# Altium integrated library Cypress Clocks & Buffers Clock Distribution.IntLib: 321 symbols (part 24 of 25)
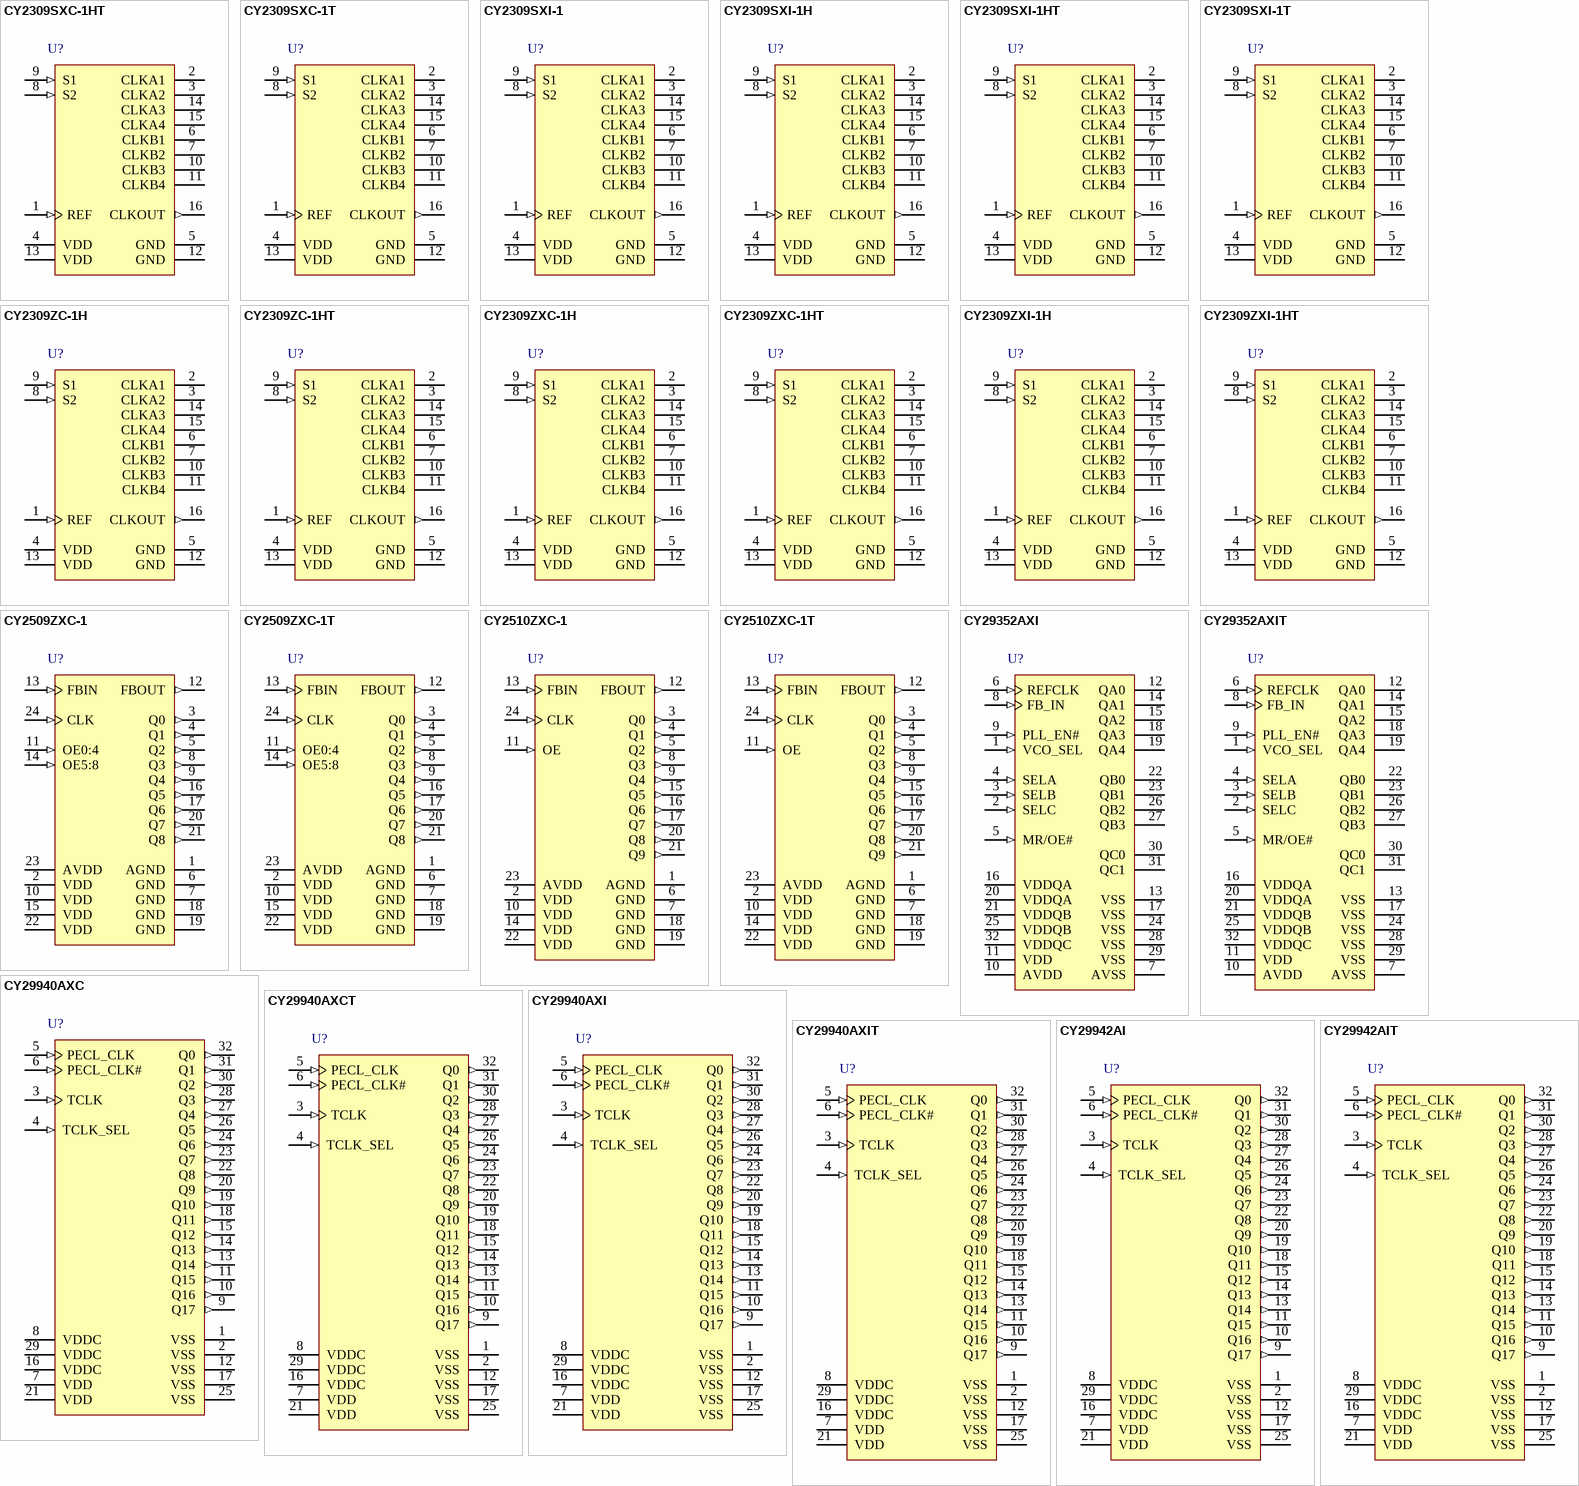
[diagram p39: symbols CY2309SXC-1HT to CY29942AIT]

## CY29940AXIT
designator U?
1:18 Clock Distribution Buffer, 2.5 / 3.3 V, 18 Outputs, 200 MHz Maximum, -40 to 85 degC, 32-Pin PLCC (AX32), Tape and Reel; Manufacturer: Cypress; PartNumber: CY29940AXIT; Input Frequency Max. (MHz): 200; Max. Operating Voltage (V): 3.465; Min. Operating Voltage (V): 2.375; No. of Outputs: 18; DatasheetVersion: Rev. *F; PackageVersion: Rev. *E, 08/2012; PackageReference: AX32; PackageDescription: 32-Pin Thin Plastic Quad Flatpack, Body 7 x 7 mm, Pitch 0.8 mm; Supplier 1: Digi-Key; Supplier Part Number 1: CY29940AXIT-ND; Supplier 2: Mouser; Supplier Part Number 2: 727-CY29940AXIT; Max. Operating Temp. (degreesC): 85; Min. Operating Temp. (degreesC): -40; Output Frequency Max. (MHz): 200; Packing: Tape and Reel; RoHS: Pb-Free; Mounting Technology: Surface Mount; ComponentLink1Description: Manufacturer URL; ComponentLink1URL: http://www.cypress.com/; ComponentLink2Description: Datasheet; ComponentLink2URL: http://www.cypress.com/?docID=34951; ComponentLink3Description: Package Specification; ComponentLink3URL: http://www.cypress.com/?docID=39237
footprint CYP-AX32_N (QFP, 32-Leads, Body 7x7mm, Pitch 0.8mm, IPC Medium Density)
footprint CYP-AX32_L (QFP, 32-Leads, Body 7x7mm, Pitch 0.8mm, IPC High Density)
footprint CYP-AX32_M (QFP, 32-Leads, Body 7x7mm, Pitch 0.8mm, IPC Low Density)
pins: 1 VSS (power) "Common ground", 2 VSS (power) "Common ground", 3 TCLK (in) "External reference/test clock input", 4 TCLK_SEL (in) "Clock Select Input. When LOW, PECL clock is selected and when HIGH TCLK is selected.", 5 PECL_CLK (in) "PECL input clock", 6 PECL_CLK# (in) "PECL input clock", 7 VDD (power) "3.3 V or 2.5 V power supply", 8 VDDC (power) "3.3 V or 2.5 V power supply for output clock buffers", 9 Q17 (out) "Clock outputs", 10 Q16 (out) "Clock outputs", 11 Q15 (out) "Clock outputs", 12 VSS (power) "Common ground", 13 Q14 (out) "Clock outputs", 14 Q13 (out) "Clock outputs", 15 Q12 (out) "Clock outputs", 16 VDDC (power) "3.3 V or 2.5 V power supply for output clock buffers", 17 VSS (power) "Common ground", 18 Q11 (out) "Clock outputs", 19 Q10 (out) "Clock outputs", 20 Q9 (out) "Clock outputs", 21 VDD (power) "3.3 V or 2.5 V power supply", 22 Q8 (out) "Clock outputs", 23 Q7 (out) "Clock outputs", 24 Q6 (out) "Clock outputs", 25 VSS (power) "Common ground", 26 Q5 (out) "Clock outputs", 27 Q4 (out) "Clock outputs", 28 Q3 (out) "Clock outputs", 29 VDDC (power) "3.3 V or 2.5 V power supply for output clock buffers", 30 Q2 (out) "Clock outputs", 31 Q1 (out) "Clock outputs", 32 Q0 (out) "Clock outputs"

## CY29942AI
designator U?
1:18 Clock Distribution Buffer, 2.5 / 3.3 V, 18 Outputs, 200 MHz Maximum, -40 to 85 degC, 32-Pin TQFP (AX32), Tube; Manufacturer: Cypress; PartNumber: CY29942AI; Input Frequency Max. (MHz): 200; Max. Operating Voltage (V): 3.465; Min. Operating Voltage (V): 2.375; No. of Outputs: 18; DatasheetVersion: Rev. *H; PackageVersion: Rev. *E, 08/2012; PackageReference: AX32; PackageDescription: 32-Pin Thin Plastic Quad Flatpack, Body 7 x 7 mm, Pitch 0.8 mm; Supplier 1: Digi-Key; Supplier Part Number 1: CY29942AI-ND; Supplier 2: Mouser; Supplier Part Number 2: 727-CY29942AI; Max. Operating Temp. (degreesC): 85; Min. Operating Temp. (degreesC): -40; Output Frequency Max. (MHz): 200; Packing: Tube; Mounting Technology: Surface Mount; ComponentLink1Description: Manufacturer URL; ComponentLink1URL: http://www.cypress.com/; ComponentLink2Description: Datasheet; ComponentLink2URL: http://www.cypress.com/?docID=46260; ComponentLink3Description: Package Specification; ComponentLink3URL: http://www.cypress.com/?docID=39237
footprint CYP-AX32_N (QFP, 32-Leads, Body 7x7mm, Pitch 0.8mm, IPC Medium Density)
footprint CYP-AX32_L (QFP, 32-Leads, Body 7x7mm, Pitch 0.8mm, IPC High Density)
footprint CYP-AX32_M (QFP, 32-Leads, Body 7x7mm, Pitch 0.8mm, IPC Low Density)
pins: 1 VSS (power) "Common ground", 2 VSS (power) "Common ground", 3 TCLK (in) "External reference/test clock input", 4 TCLK_SEL (in) "Clock Select Input. When LOW, PECL clock is selected and when HIGH TCLK is selected.", 5 PECL_CLK (in) "PECL input clock", 6 PECL_CLK# (in) "PECL input clock", 7 VDD (power) "3.3 V or 2.5 V power supply", 8 VDDC (power) "3.3 V or 2.5 V power supply for output clock buffers", 9 Q17 (out) "Clock outputs", 10 Q16 (out) "Clock outputs", 11 Q15 (out) "Clock outputs", 12 VSS (power) "Common ground", 13 Q14 (out) "Clock outputs", 14 Q13 (out) "Clock outputs", 15 Q12 (out) "Clock outputs", 16 VDDC (power) "3.3 V or 2.5 V power supply for output clock buffers", 17 VSS (power) "Common ground", 18 Q11 (out) "Clock outputs", 19 Q10 (out) "Clock outputs", 20 Q9 (out) "Clock outputs", 21 VDD (power) "3.3 V or 2.5 V power supply", 22 Q8 (out) "Clock outputs", 23 Q7 (out) "Clock outputs", 24 Q6 (out) "Clock outputs", 25 VSS (power) "Common ground", 26 Q5 (out) "Clock outputs", 27 Q4 (out) "Clock outputs", 28 Q3 (out) "Clock outputs", 29 VDDC (power) "3.3 V or 2.5 V power supply for output clock buffers", 30 Q2 (out) "Clock outputs", 31 Q1 (out) "Clock outputs", 32 Q0 (out) "Clock outputs"

## CY29942AIT
designator U?
1:18 Clock Distribution Buffer, 2.5 / 3.3 V, 18 Outputs, 200 MHz Maximum, -40 to 85 degC, 32-Pin TQFP (AX32), Tape and Reel; Manufacturer: Cypress; PartNumber: CY29942AIT; Input Frequency Max. (MHz): 200; Max. Operating Voltage (V): 3.465; Min. Operating Voltage (V): 2.375; No. of Outputs: 18; DatasheetVersion: Rev. *H; PackageVersion: Rev. *E, 08/2012; PackageReference: AX32; PackageDescription: 32-Pin Thin Plastic Quad Flatpack, Body 7 x 7 mm, Pitch 0.8 mm; Supplier 1: Mouser; Supplier Part Number 1: N/A; Max. Operating Temp. (degreesC): 85; Min. Operating Temp. (degreesC): -40; Output Frequency Max. (MHz): 200; Packing: Tape and Reel; Mounting Technology: Surface Mount; ComponentLink1Description: Manufacturer URL; ComponentLink1URL: http://www.cypress.com/; ComponentLink2Description: Datasheet; ComponentLink2URL: http://www.cypress.com/?docID=46260; ComponentLink3Description: Package Specification; ComponentLink3URL: http://www.cypress.com/?docID=39237
footprint CYP-AX32_N (QFP, 32-Leads, Body 7x7mm, Pitch 0.8mm, IPC Medium Density)
footprint CYP-AX32_L (QFP, 32-Leads, Body 7x7mm, Pitch 0.8mm, IPC High Density)
footprint CYP-AX32_M (QFP, 32-Leads, Body 7x7mm, Pitch 0.8mm, IPC Low Density)
pins: 1 VSS (power) "Common ground", 2 VSS (power) "Common ground", 3 TCLK (in) "External reference/test clock input", 4 TCLK_SEL (in) "Clock Select Input. When LOW, PECL clock is selected and when HIGH TCLK is selected.", 5 PECL_CLK (in) "PECL input clock", 6 PECL_CLK# (in) "PECL input clock", 7 VDD (power) "3.3 V or 2.5 V power supply", 8 VDDC (power) "3.3 V or 2.5 V power supply for output clock buffers", 9 Q17 (out) "Clock outputs", 10 Q16 (out) "Clock outputs", 11 Q15 (out) "Clock outputs", 12 VSS (power) "Common ground", 13 Q14 (out) "Clock outputs", 14 Q13 (out) "Clock outputs", 15 Q12 (out) "Clock outputs", 16 VDDC (power) "3.3 V or 2.5 V power supply for output clock buffers", 17 VSS (power) "Common ground", 18 Q11 (out) "Clock outputs", 19 Q10 (out) "Clock outputs", 20 Q9 (out) "Clock outputs", 21 VDD (power) "3.3 V or 2.5 V power supply", 22 Q8 (out) "Clock outputs", 23 Q7 (out) "Clock outputs", 24 Q6 (out) "Clock outputs", 25 VSS (power) "Common ground", 26 Q5 (out) "Clock outputs", 27 Q4 (out) "Clock outputs", 28 Q3 (out) "Clock outputs", 29 VDDC (power) "3.3 V or 2.5 V power supply for output clock buffers", 30 Q2 (out) "Clock outputs", 31 Q1 (out) "Clock outputs", 32 Q0 (out) "Clock outputs"

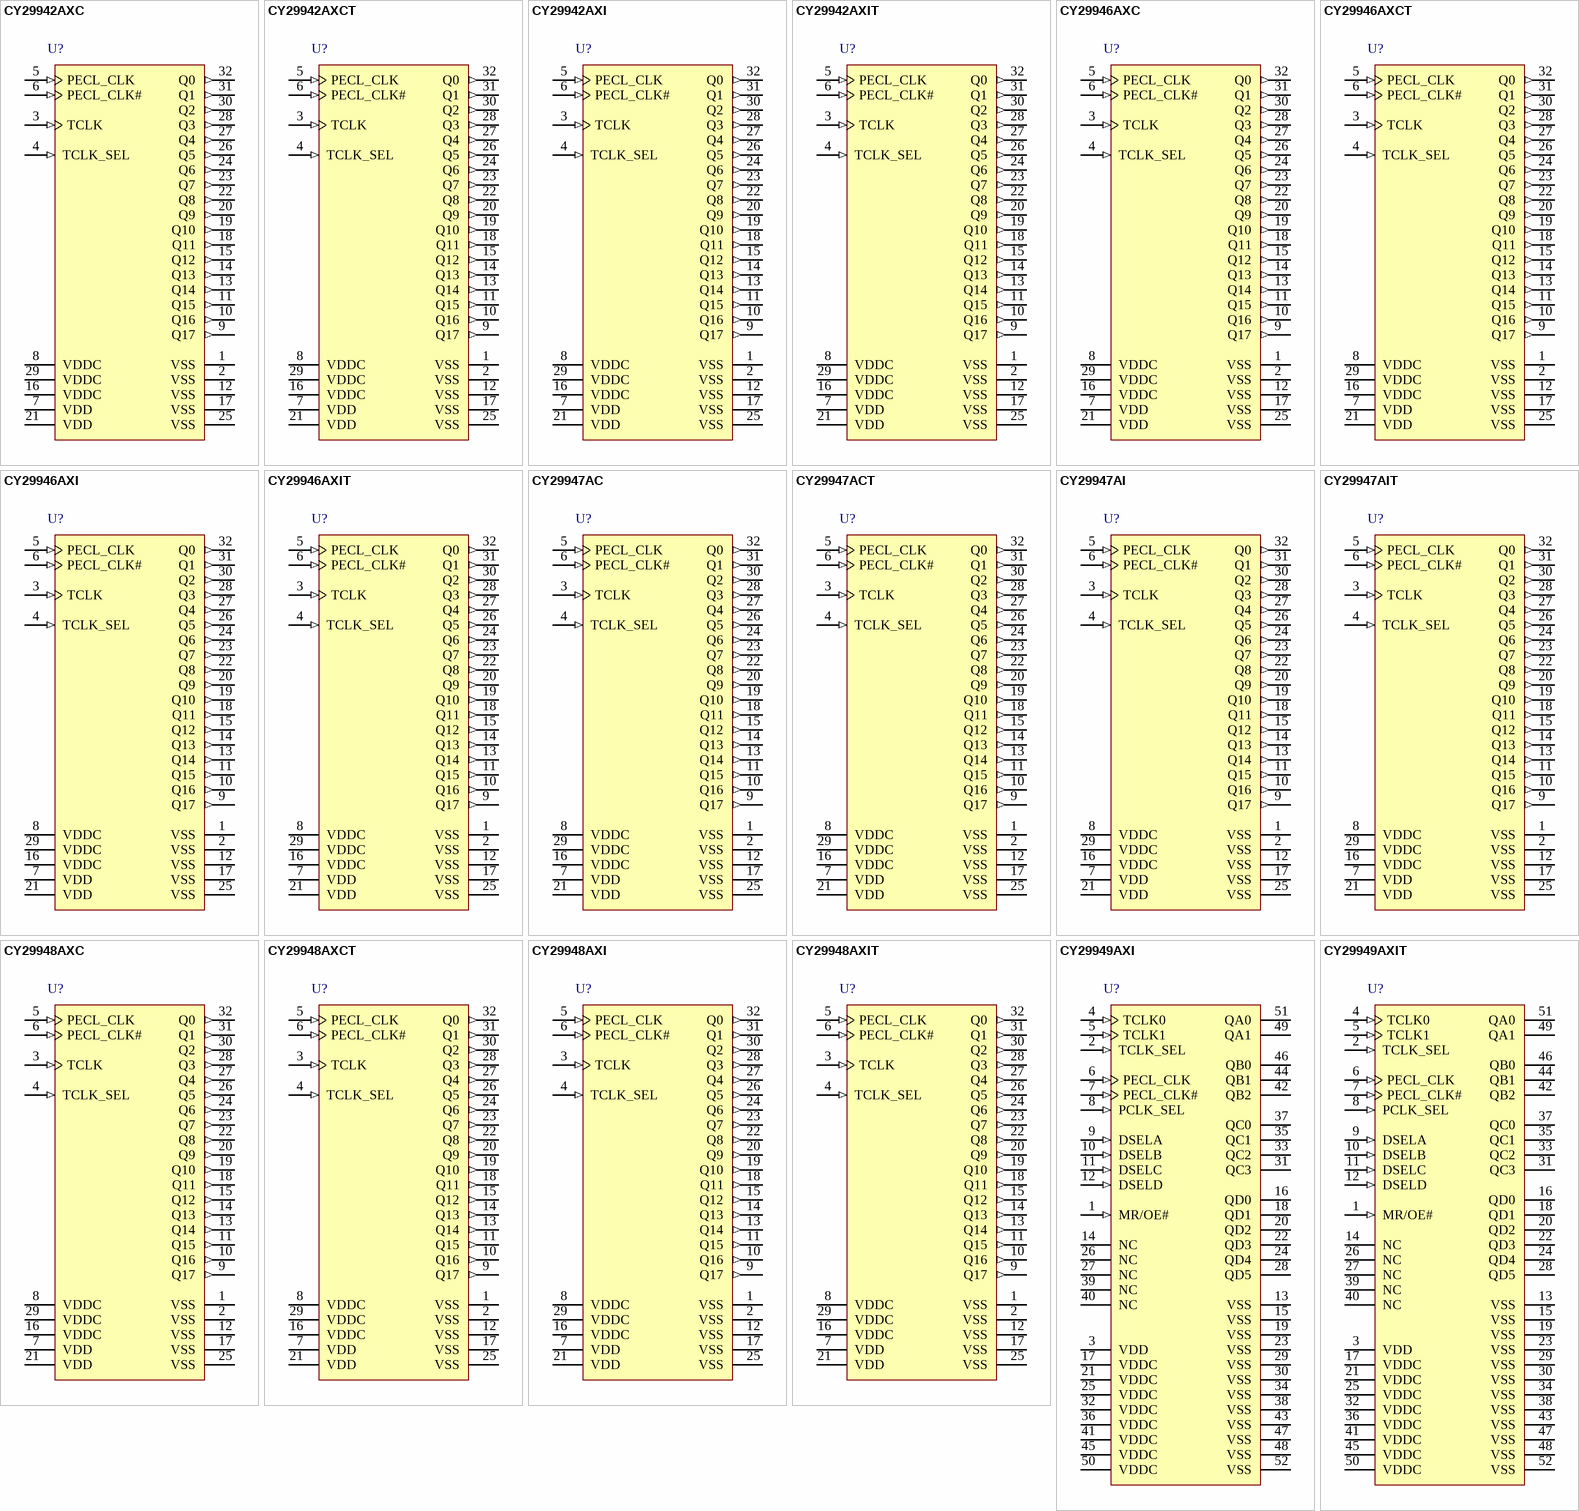
[diagram p15: symbols CY29942AXC to CY29949AXIT]

## CY29942AXC
designator U?
1:18 Clock Distribution Buffer, 2.5 / 3.3 V, 18 Outputs, 200 MHz Maximum, 0 to 70 degC, 32-Pin TQFP (AX32), Tube; Manufacturer: Cypress; PartNumber: CY29942AXC; Input Frequency Max. (MHz): 200; Max. Operating Voltage (V): 3.465; Min. Operating Voltage (V): 2.375; No. of Outputs: 18; DatasheetVersion: Rev. *H; PackageVersion: Rev. *E, 08/2012; PackageReference: AX32; PackageDescription: 32-Pin Thin Plastic Quad Flatpack, Body 7 x 7 mm, Pitch 0.8 mm; Supplier 1: Digi-Key; Supplier Part Number 1: 428-2232-ND; Supplier 2: Mouser; Supplier Part Number 2: 727-CY29942AXC; Max. Operating Temp. (degreesC): 70; Min. Operating Temp. (degreesC): 0; Output Frequency Max. (MHz): 200; Packing: Tube; RoHS: Pb-Free; Mounting Technology: Surface Mount; ComponentLink1Description: Manufacturer URL; ComponentLink1URL: http://www.cypress.com/; ComponentLink2Description: Datasheet; ComponentLink2URL: http://www.cypress.com/?docID=46260; ComponentLink3Description: Package Specification; ComponentLink3URL: http://www.cypress.com/?docID=39237
footprint CYP-AX32_N (QFP, 32-Leads, Body 7x7mm, Pitch 0.8mm, IPC Medium Density)
footprint CYP-AX32_L (QFP, 32-Leads, Body 7x7mm, Pitch 0.8mm, IPC High Density)
footprint CYP-AX32_M (QFP, 32-Leads, Body 7x7mm, Pitch 0.8mm, IPC Low Density)
pins: 1 VSS (power) "Common ground", 2 VSS (power) "Common ground", 3 TCLK (in) "External reference/test clock input", 4 TCLK_SEL (in) "Clock Select Input. When LOW, PECL clock is selected and when HIGH TCLK is selected.", 5 PECL_CLK (in) "PECL input clock", 6 PECL_CLK# (in) "PECL input clock", 7 VDD (power) "3.3 V or 2.5 V power supply", 8 VDDC (power) "3.3 V or 2.5 V power supply for output clock buffers", 9 Q17 (out) "Clock outputs", 10 Q16 (out) "Clock outputs", 11 Q15 (out) "Clock outputs", 12 VSS (power) "Common ground", 13 Q14 (out) "Clock outputs", 14 Q13 (out) "Clock outputs", 15 Q12 (out) "Clock outputs", 16 VDDC (power) "3.3 V or 2.5 V power supply for output clock buffers", 17 VSS (power) "Common ground", 18 Q11 (out) "Clock outputs", 19 Q10 (out) "Clock outputs", 20 Q9 (out) "Clock outputs", 21 VDD (power) "3.3 V or 2.5 V power supply", 22 Q8 (out) "Clock outputs", 23 Q7 (out) "Clock outputs", 24 Q6 (out) "Clock outputs", 25 VSS (power) "Common ground", 26 Q5 (out) "Clock outputs", 27 Q4 (out) "Clock outputs", 28 Q3 (out) "Clock outputs", 29 VDDC (power) "3.3 V or 2.5 V power supply for output clock buffers", 30 Q2 (out) "Clock outputs", 31 Q1 (out) "Clock outputs", 32 Q0 (out) "Clock outputs"

## CY29942AXCT
designator U?
1:18 Clock Distribution Buffer, 2.5 / 3.3 V, 18 Outputs, 200 MHz Maximum, 0 to 70 degC, 32-Pin TQFP (AX32), Tape and Reel; Manufacturer: Cypress; PartNumber: CY29942AXCT; Input Frequency Max. (MHz): 200; Max. Operating Voltage (V): 3.465; Min. Operating Voltage (V): 2.375; No. of Outputs: 18; DatasheetVersion: Rev. *H; PackageVersion: Rev. *E, 08/2012; PackageReference: AX32; PackageDescription: 32-Pin Thin Plastic Quad Flatpack, Body 7 x 7 mm, Pitch 0.8 mm; Supplier 1: Digi-Key; Supplier Part Number 1: CY29942AXCT-ND; Supplier 2: Mouser; Supplier Part Number 2: 727-CY29942AXCT; Max. Operating Temp. (degreesC): 70; Min. Operating Temp. (degreesC): 0; Output Frequency Max. (MHz): 200; Packing: Tape and Reel; RoHS: Pb-Free; Mounting Technology: Surface Mount; ComponentLink1Description: Manufacturer URL; ComponentLink1URL: http://www.cypress.com/; ComponentLink2Description: Datasheet; ComponentLink2URL: http://www.cypress.com/?docID=46260; ComponentLink3Description: Package Specification; ComponentLink3URL: http://www.cypress.com/?docID=39237
footprint CYP-AX32_N (QFP, 32-Leads, Body 7x7mm, Pitch 0.8mm, IPC Medium Density)
footprint CYP-AX32_L (QFP, 32-Leads, Body 7x7mm, Pitch 0.8mm, IPC High Density)
footprint CYP-AX32_M (QFP, 32-Leads, Body 7x7mm, Pitch 0.8mm, IPC Low Density)
pins: 1 VSS (power) "Common ground", 2 VSS (power) "Common ground", 3 TCLK (in) "External reference/test clock input", 4 TCLK_SEL (in) "Clock Select Input. When LOW, PECL clock is selected and when HIGH TCLK is selected.", 5 PECL_CLK (in) "PECL input clock", 6 PECL_CLK# (in) "PECL input clock", 7 VDD (power) "3.3 V or 2.5 V power supply", 8 VDDC (power) "3.3 V or 2.5 V power supply for output clock buffers", 9 Q17 (out) "Clock outputs", 10 Q16 (out) "Clock outputs", 11 Q15 (out) "Clock outputs", 12 VSS (power) "Common ground", 13 Q14 (out) "Clock outputs", 14 Q13 (out) "Clock outputs", 15 Q12 (out) "Clock outputs", 16 VDDC (power) "3.3 V or 2.5 V power supply for output clock buffers", 17 VSS (power) "Common ground", 18 Q11 (out) "Clock outputs", 19 Q10 (out) "Clock outputs", 20 Q9 (out) "Clock outputs", 21 VDD (power) "3.3 V or 2.5 V power supply", 22 Q8 (out) "Clock outputs", 23 Q7 (out) "Clock outputs", 24 Q6 (out) "Clock outputs", 25 VSS (power) "Common ground", 26 Q5 (out) "Clock outputs", 27 Q4 (out) "Clock outputs", 28 Q3 (out) "Clock outputs", 29 VDDC (power) "3.3 V or 2.5 V power supply for output clock buffers", 30 Q2 (out) "Clock outputs", 31 Q1 (out) "Clock outputs", 32 Q0 (out) "Clock outputs"

## CY29942AXI
designator U?
1:18 Clock Distribution Buffer, 2.5 / 3.3 V, 18 Outputs, 200 MHz Maximum, -40 to 85 degC, 32-Pin TQFP (AX32), Tube; Manufacturer: Cypress; PartNumber: CY29942AXI; Input Frequency Max. (MHz): 200; Max. Operating Voltage (V): 3.465; Min. Operating Voltage (V): 2.375; No. of Outputs: 18; DatasheetVersion: Rev. *H; PackageVersion: Rev. *E, 08/2012; PackageReference: AX32; PackageDescription: 32-Pin Thin Plastic Quad Flatpack, Body 7 x 7 mm, Pitch 0.8 mm; Supplier 1: Digi-Key; Supplier Part Number 1: 428-2233-ND; Supplier 2: Mouser; Supplier Part Number 2: 727-CY29942AXI; Max. Operating Temp. (degreesC): 85; Min. Operating Temp. (degreesC): -40; Output Frequency Max. (MHz): 200; Packing: Tube; RoHS: Pb-Free; Mounting Technology: Surface Mount; ComponentLink1Description: Manufacturer URL; ComponentLink1URL: http://www.cypress.com/; ComponentLink2Description: Datasheet; ComponentLink2URL: http://www.cypress.com/?docID=46260; ComponentLink3Description: Package Specification; ComponentLink3URL: http://www.cypress.com/?docID=39237
footprint CYP-AX32_N (QFP, 32-Leads, Body 7x7mm, Pitch 0.8mm, IPC Medium Density)
footprint CYP-AX32_L (QFP, 32-Leads, Body 7x7mm, Pitch 0.8mm, IPC High Density)
footprint CYP-AX32_M (QFP, 32-Leads, Body 7x7mm, Pitch 0.8mm, IPC Low Density)
pins: 1 VSS (power) "Common ground", 2 VSS (power) "Common ground", 3 TCLK (in) "External reference/test clock input", 4 TCLK_SEL (in) "Clock Select Input. When LOW, PECL clock is selected and when HIGH TCLK is selected.", 5 PECL_CLK (in) "PECL input clock", 6 PECL_CLK# (in) "PECL input clock", 7 VDD (power) "3.3 V or 2.5 V power supply", 8 VDDC (power) "3.3 V or 2.5 V power supply for output clock buffers", 9 Q17 (out) "Clock outputs", 10 Q16 (out) "Clock outputs", 11 Q15 (out) "Clock outputs", 12 VSS (power) "Common ground", 13 Q14 (out) "Clock outputs", 14 Q13 (out) "Clock outputs", 15 Q12 (out) "Clock outputs", 16 VDDC (power) "3.3 V or 2.5 V power supply for output clock buffers", 17 VSS (power) "Common ground", 18 Q11 (out) "Clock outputs", 19 Q10 (out) "Clock outputs", 20 Q9 (out) "Clock outputs", 21 VDD (power) "3.3 V or 2.5 V power supply", 22 Q8 (out) "Clock outputs", 23 Q7 (out) "Clock outputs", 24 Q6 (out) "Clock outputs", 25 VSS (power) "Common ground", 26 Q5 (out) "Clock outputs", 27 Q4 (out) "Clock outputs", 28 Q3 (out) "Clock outputs", 29 VDDC (power) "3.3 V or 2.5 V power supply for output clock buffers", 30 Q2 (out) "Clock outputs", 31 Q1 (out) "Clock outputs", 32 Q0 (out) "Clock outputs"

## CY29942AXIT
designator U?
1:18 Clock Distribution Buffer, 2.5 / 3.3 V, 18 Outputs, 200 MHz Maximum, -40 to 85 degC, 32-Pin TQFP (AX32), Tape and Reel; Manufacturer: Cypress; PartNumber: CY29942AXIT; Input Frequency Max. (MHz): 200; Max. Operating Voltage (V): 3.465; Min. Operating Voltage (V): 2.375; No. of Outputs: 18; DatasheetVersion: Rev. *H; PackageVersion: Rev. *E, 08/2012; PackageReference: AX32; PackageDescription: 32-Pin Thin Plastic Quad Flatpack, Body 7 x 7 mm, Pitch 0.8 mm; Supplier 1: Digi-Key; Supplier Part Number 1: CY29942AXIT-ND; Supplier 2: Mouser; Supplier Part Number 2: 727-CY29942AXIT; Max. Operating Temp. (degreesC): 85; Min. Operating Temp. (degreesC): -40; Output Frequency Max. (MHz): 200; Packing: Tape and Reel; RoHS: Pb-Free; Mounting Technology: Surface Mount; ComponentLink1Description: Manufacturer URL; ComponentLink1URL: http://www.cypress.com/; ComponentLink2Description: Datasheet; ComponentLink2URL: http://www.cypress.com/?docID=46260; ComponentLink3Description: Package Specification; ComponentLink3URL: http://www.cypress.com/?docID=39237
footprint CYP-AX32_N (QFP, 32-Leads, Body 7x7mm, Pitch 0.8mm, IPC Medium Density)
footprint CYP-AX32_L (QFP, 32-Leads, Body 7x7mm, Pitch 0.8mm, IPC High Density)
footprint CYP-AX32_M (QFP, 32-Leads, Body 7x7mm, Pitch 0.8mm, IPC Low Density)
pins: 1 VSS (power) "Common ground", 2 VSS (power) "Common ground", 3 TCLK (in) "External reference/test clock input", 4 TCLK_SEL (in) "Clock Select Input. When LOW, PECL clock is selected and when HIGH TCLK is selected.", 5 PECL_CLK (in) "PECL input clock", 6 PECL_CLK# (in) "PECL input clock", 7 VDD (power) "3.3 V or 2.5 V power supply", 8 VDDC (power) "3.3 V or 2.5 V power supply for output clock buffers", 9 Q17 (out) "Clock outputs", 10 Q16 (out) "Clock outputs", 11 Q15 (out) "Clock outputs", 12 VSS (power) "Common ground", 13 Q14 (out) "Clock outputs", 14 Q13 (out) "Clock outputs", 15 Q12 (out) "Clock outputs", 16 VDDC (power) "3.3 V or 2.5 V power supply for output clock buffers", 17 VSS (power) "Common ground", 18 Q11 (out) "Clock outputs", 19 Q10 (out) "Clock outputs", 20 Q9 (out) "Clock outputs", 21 VDD (power) "3.3 V or 2.5 V power supply", 22 Q8 (out) "Clock outputs", 23 Q7 (out) "Clock outputs", 24 Q6 (out) "Clock outputs", 25 VSS (power) "Common ground", 26 Q5 (out) "Clock outputs", 27 Q4 (out) "Clock outputs", 28 Q3 (out) "Clock outputs", 29 VDDC (power) "3.3 V or 2.5 V power supply for output clock buffers", 30 Q2 (out) "Clock outputs", 31 Q1 (out) "Clock outputs", 32 Q0 (out) "Clock outputs"

## CY29946AXC
designator U?
1:10 Clock Distribution Buffer, 2.5 / 3.3 V, 10 Outputs, 200 MHz Maximum, 0 to 70 degC, 32-Pin TQFP (AX32), Tube; Manufacturer: Cypress; PartNumber: CY29946AXC; Input Frequency Max. (MHz): 200; Max. Operating Voltage (V): 3.465; Min. Operating Voltage (V): 2.375; No. of Outputs: 10; DatasheetVersion: Rev. *G; PackageVersion: Rev. *D, 07/2011; PackageReference: AX32; PackageDescription: 32-Pin Thin Plastic Quad Flatpack, Body 7 x 7 mm, Pitch 0.8 mm; Supplier 1: Digi-Key; Supplier Part Number 1: 428-2234-ND; Supplier 2: Mouser; Supplier Part Number 2: 727-CY29946AXC; Max. Operating Temp. (degreesC): 70; Min. Operating Temp. (degreesC): 0; Packing: Tube; RoHS: Pb-Free; Mounting Technology: Surface Mount; ComponentLink1Description: Manufacturer URL; ComponentLink1URL: http://www.cypress.com/; ComponentLink2Description: Datasheet; ComponentLink2URL: http://www.cypress.com/?docID=29039; ComponentLink3Description: Package Specification; ComponentLink3URL: http://www.cypress.com/?docID=39155
footprint CYP-AX32-51-85063_N (QFP, 32-Leads, Body 7x7mm, Pitch 0.8mm, IPC Medium Density)
footprint CYP-AX32-51-85063_L (QFP, 32-Leads, Body 7x7mm, Pitch 0.8mm, IPC High Density)
footprint CYP-AX32-51-85063_M (QFP, 32-Leads, Body 7x7mm, Pitch 0.8mm, IPC Low Density)
pins: 1 VSS (power) "Common ground", 2 VSS (power) "Common ground", 3 TCLK (in) "External reference/test clock input", 4 TCLK_SEL (in) "Clock Select Input. When LOW, PECL clock is selected and when HIGH TCLK is selected.", 5 PECL_CLK (in) "PECL input clock", 6 PECL_CLK# (in) "PECL input clock", 7 VDD (power) "3.3 V or 2.5 V power supply", 8 VDDC (power) "3.3 V or 2.5 V power supply for output clock buffers", 9 Q17 (out) "Clock outputs", 10 Q16 (out) "Clock outputs", 11 Q15 (out) "Clock outputs", 12 VSS (power) "Common ground", 13 Q14 (out) "Clock outputs", 14 Q13 (out) "Clock outputs", 15 Q12 (out) "Clock outputs", 16 VDDC (power) "3.3 V or 2.5 V power supply for output clock buffers", 17 VSS (power) "Common ground", 18 Q11 (out) "Clock outputs", 19 Q10 (out) "Clock outputs", 20 Q9 (out) "Clock outputs", 21 VDD (power) "3.3 V or 2.5 V power supply", 22 Q8 (out) "Clock outputs", 23 Q7 (out) "Clock outputs", 24 Q6 (out) "Clock outputs", 25 VSS (power) "Common ground", 26 Q5 (out) "Clock outputs", 27 Q4 (out) "Clock outputs", 28 Q3 (out) "Clock outputs", 29 VDDC (power) "3.3 V or 2.5 V power supply for output clock buffers", 30 Q2 (out) "Clock outputs", 31 Q1 (out) "Clock outputs", 32 Q0 (out) "Clock outputs"

## CY29946AXCT
designator U?
1:10 Clock Distribution Buffer, 2.5 / 3.3 V, 10 Outputs, 200 MHz Maximum, 0 to 70 degC, 32-Pin TQFP (AX32), Tape and Reel; Manufacturer: Cypress; PartNumber: CY29946AXCT; Input Frequency Max. (MHz): 200; Max. Operating Voltage (V): 3.465; Min. Operating Voltage (V): 2.375; No. of Outputs: 10; DatasheetVersion: Rev. *G; PackageVersion: Rev. *D, 07/2011; PackageReference: AX32; PackageDescription: 32-Pin Thin Plastic Quad Flatpack, Body 7 x 7 mm, Pitch 0.8 mm; Supplier 1: Digi-Key; Supplier Part Number 1: CY29946AXCT-ND; Supplier 2: Mouser; Supplier Part Number 2: 727-CY29946AXCT; Max. Operating Temp. (degreesC): 70; Min. Operating Temp. (degreesC): 0; Packing: Tape and Reel; RoHS: Pb-Free; Mounting Technology: Surface Mount; ComponentLink1Description: Manufacturer URL; ComponentLink1URL: http://www.cypress.com/; ComponentLink2Description: Datasheet; ComponentLink2URL: http://www.cypress.com/?docID=29039; ComponentLink3Description: Package Specification; ComponentLink3URL: http://www.cypress.com/?docID=39155
footprint CYP-AX32-51-85063_N (QFP, 32-Leads, Body 7x7mm, Pitch 0.8mm, IPC Medium Density)
footprint CYP-AX32-51-85063_L (QFP, 32-Leads, Body 7x7mm, Pitch 0.8mm, IPC High Density)
footprint CYP-AX32-51-85063_M (QFP, 32-Leads, Body 7x7mm, Pitch 0.8mm, IPC Low Density)
pins: 1 VSS (power) "Common ground", 2 VSS (power) "Common ground", 3 TCLK (in) "External reference/test clock input", 4 TCLK_SEL (in) "Clock Select Input. When LOW, PECL clock is selected and when HIGH TCLK is selected.", 5 PECL_CLK (in) "PECL input clock", 6 PECL_CLK# (in) "PECL input clock", 7 VDD (power) "3.3 V or 2.5 V power supply", 8 VDDC (power) "3.3 V or 2.5 V power supply for output clock buffers", 9 Q17 (out) "Clock outputs", 10 Q16 (out) "Clock outputs", 11 Q15 (out) "Clock outputs", 12 VSS (power) "Common ground", 13 Q14 (out) "Clock outputs", 14 Q13 (out) "Clock outputs", 15 Q12 (out) "Clock outputs", 16 VDDC (power) "3.3 V or 2.5 V power supply for output clock buffers", 17 VSS (power) "Common ground", 18 Q11 (out) "Clock outputs", 19 Q10 (out) "Clock outputs", 20 Q9 (out) "Clock outputs", 21 VDD (power) "3.3 V or 2.5 V power supply", 22 Q8 (out) "Clock outputs", 23 Q7 (out) "Clock outputs", 24 Q6 (out) "Clock outputs", 25 VSS (power) "Common ground", 26 Q5 (out) "Clock outputs", 27 Q4 (out) "Clock outputs", 28 Q3 (out) "Clock outputs", 29 VDDC (power) "3.3 V or 2.5 V power supply for output clock buffers", 30 Q2 (out) "Clock outputs", 31 Q1 (out) "Clock outputs", 32 Q0 (out) "Clock outputs"

## CY29946AXI
designator U?
1:10 Clock Distribution Buffer, 2.5 / 3.3 V, 10 Outputs, 200 MHz Maximum, -40 to 85 degC, 32-Pin TQFP (AX32), Tube; Manufacturer: Cypress; PartNumber: CY29946AXI; Input Frequency Max. (MHz): 200; Max. Operating Voltage (V): 3.465; Min. Operating Voltage (V): 2.375; No. of Outputs: 10; DatasheetVersion: Rev. *G; PackageVersion: Rev. *D, 07/2011; PackageReference: AX32; PackageDescription: 32-Pin Thin Plastic Quad Flatpack, Body 7 x 7 mm, Pitch 0.8 mm; Supplier 1: Digi-Key; Supplier Part Number 1: CY29946AXI-ND; Supplier 2: Newark; Supplier Part Number 2: 19M6187; Supplier 3: Mouser; Supplier Part Number 3: 727-CY29946AXI; Max. Operating Temp. (degreesC): 85; Min. Operating Temp. (degreesC): -40; Packing: Tube; RoHS: Pb-Free; Mounting Technology: Surface Mount; ComponentLink1Description: Manufacturer URL; ComponentLink1URL: http://www.cypress.com/; ComponentLink2Description: Datasheet; ComponentLink2URL: http://www.cypress.com/?docID=29039; ComponentLink3Description: Package Specification; ComponentLink3URL: http://www.cypress.com/?docID=39155
footprint CYP-AX32-51-85063_N (QFP, 32-Leads, Body 7x7mm, Pitch 0.8mm, IPC Medium Density)
footprint CYP-AX32-51-85063_L (QFP, 32-Leads, Body 7x7mm, Pitch 0.8mm, IPC High Density)
footprint CYP-AX32-51-85063_M (QFP, 32-Leads, Body 7x7mm, Pitch 0.8mm, IPC Low Density)
pins: 1 VSS (power) "Common ground", 2 VSS (power) "Common ground", 3 TCLK (in) "External reference/test clock input", 4 TCLK_SEL (in) "Clock Select Input. When LOW, PECL clock is selected and when HIGH TCLK is selected.", 5 PECL_CLK (in) "PECL input clock", 6 PECL_CLK# (in) "PECL input clock", 7 VDD (power) "3.3 V or 2.5 V power supply", 8 VDDC (power) "3.3 V or 2.5 V power supply for output clock buffers", 9 Q17 (out) "Clock outputs", 10 Q16 (out) "Clock outputs", 11 Q15 (out) "Clock outputs", 12 VSS (power) "Common ground", 13 Q14 (out) "Clock outputs", 14 Q13 (out) "Clock outputs", 15 Q12 (out) "Clock outputs", 16 VDDC (power) "3.3 V or 2.5 V power supply for output clock buffers", 17 VSS (power) "Common ground", 18 Q11 (out) "Clock outputs", 19 Q10 (out) "Clock outputs", 20 Q9 (out) "Clock outputs", 21 VDD (power) "3.3 V or 2.5 V power supply", 22 Q8 (out) "Clock outputs", 23 Q7 (out) "Clock outputs", 24 Q6 (out) "Clock outputs", 25 VSS (power) "Common ground", 26 Q5 (out) "Clock outputs", 27 Q4 (out) "Clock outputs", 28 Q3 (out) "Clock outputs", 29 VDDC (power) "3.3 V or 2.5 V power supply for output clock buffers", 30 Q2 (out) "Clock outputs", 31 Q1 (out) "Clock outputs", 32 Q0 (out) "Clock outputs"

## CY29946AXIT
designator U?
1:10 Clock Distribution Buffer, 2.5 / 3.3 V, 10 Outputs, 200 MHz Maximum, -40 to 85 degC, 32-Pin TQFP (AX32), Tape and Reel; Manufacturer: Cypress; PartNumber: CY29946AXIT; Input Frequency Max. (MHz): 200; Max. Operating Voltage (V): 3.465; Min. Operating Voltage (V): 2.375; No. of Outputs: 10; DatasheetVersion: Rev. *G; PackageVersion: Rev. *D, 07/2011; PackageReference: AX32; PackageDescription: 32-Pin Thin Plastic Quad Flatpack, Body 7 x 7 mm, Pitch 0.8 mm; Supplier 1: Digi-Key; Supplier Part Number 1: CY29946AXIT-ND; Supplier 2: Mouser; Supplier Part Number 2: 727-CY29946AXIT; Max. Operating Temp. (degreesC): 85; Min. Operating Temp. (degreesC): -40; Packing: Tape and Reel; RoHS: Pb-Free; Mounting Technology: Surface Mount; ComponentLink1Description: Manufacturer URL; ComponentLink1URL: http://www.cypress.com/; ComponentLink2Description: Datasheet; ComponentLink2URL: http://www.cypress.com/?docID=29039; ComponentLink3Description: Package Specification; ComponentLink3URL: http://www.cypress.com/?docID=39155
footprint CYP-AX32-51-85063_N (QFP, 32-Leads, Body 7x7mm, Pitch 0.8mm, IPC Medium Density)
footprint CYP-AX32-51-85063_L (QFP, 32-Leads, Body 7x7mm, Pitch 0.8mm, IPC High Density)
footprint CYP-AX32-51-85063_M (QFP, 32-Leads, Body 7x7mm, Pitch 0.8mm, IPC Low Density)
pins: 1 VSS (power) "Common ground", 2 VSS (power) "Common ground", 3 TCLK (in) "External reference/test clock input", 4 TCLK_SEL (in) "Clock Select Input. When LOW, PECL clock is selected and when HIGH TCLK is selected.", 5 PECL_CLK (in) "PECL input clock", 6 PECL_CLK# (in) "PECL input clock", 7 VDD (power) "3.3 V or 2.5 V power supply", 8 VDDC (power) "3.3 V or 2.5 V power supply for output clock buffers", 9 Q17 (out) "Clock outputs", 10 Q16 (out) "Clock outputs", 11 Q15 (out) "Clock outputs", 12 VSS (power) "Common ground", 13 Q14 (out) "Clock outputs", 14 Q13 (out) "Clock outputs", 15 Q12 (out) "Clock outputs", 16 VDDC (power) "3.3 V or 2.5 V power supply for output clock buffers", 17 VSS (power) "Common ground", 18 Q11 (out) "Clock outputs", 19 Q10 (out) "Clock outputs", 20 Q9 (out) "Clock outputs", 21 VDD (power) "3.3 V or 2.5 V power supply", 22 Q8 (out) "Clock outputs", 23 Q7 (out) "Clock outputs", 24 Q6 (out) "Clock outputs", 25 VSS (power) "Common ground", 26 Q5 (out) "Clock outputs", 27 Q4 (out) "Clock outputs", 28 Q3 (out) "Clock outputs", 29 VDDC (power) "3.3 V or 2.5 V power supply for output clock buffers", 30 Q2 (out) "Clock outputs", 31 Q1 (out) "Clock outputs", 32 Q0 (out) "Clock outputs"

## CY29947AC
designator U?
1:9 Clock Distribution Buffer, 2.5 / 3.3 V, 9 Outputs, 200 MHz Maximum, 0 to 70 degC, 32-Pin TQFP (AX32); Manufacturer: Cypress; PartNumber: CY29947AC; Input Frequency Max. (MHz): 200; Max. Operating Voltage (V): 3.465; Min. Operating Voltage (V): 2.375; No. of Outputs: 9; DatasheetVersion: Rev. *C; PackageVersion: Rev. *D, 07/2011; PackageReference: AX32; PackageDescription: 32-Pin Thin Plastic Quad Flatpack, Body 7 x 7 mm, Pitch 0.8 mm; Supplier 1: Mouser; Supplier Part Number 1: N/A; Max. Operating Temp. (degreesC): 70; Min. Operating Temp. (degreesC): 0; Output Frequency Max. (MHz): 200; Mounting Technology: Surface Mount; ComponentLink1Description: Manufacturer URL; ComponentLink1URL: http://www.cypress.com/; ComponentLink2Description: Datasheet; ComponentLink2URL: http://www.cypress.com/?docID=48499; ComponentLink3Description: Package Specification; ComponentLink3URL: http://www.cypress.com/?docID=39155
footprint CYP-AX32-51-85063_N (QFP, 32-Leads, Body 7x7mm, Pitch 0.8mm, IPC Medium Density)
footprint CYP-AX32-51-85063_L (QFP, 32-Leads, Body 7x7mm, Pitch 0.8mm, IPC High Density)
footprint CYP-AX32-51-85063_M (QFP, 32-Leads, Body 7x7mm, Pitch 0.8mm, IPC Low Density)
pins: 1 VSS (power) "Common ground", 2 VSS (power) "Common ground", 3 TCLK (in) "External reference/test clock input", 4 TCLK_SEL (in) "Clock Select Input. When LOW, PECL clock is selected and when HIGH TCLK is selected.", 5 PECL_CLK (in) "PECL input clock", 6 PECL_CLK# (in) "PECL input clock", 7 VDD (power) "3.3 V or 2.5 V power supply", 8 VDDC (power) "3.3 V or 2.5 V power supply for output clock buffers", 9 Q17 (out) "Clock outputs", 10 Q16 (out) "Clock outputs", 11 Q15 (out) "Clock outputs", 12 VSS (power) "Common ground", 13 Q14 (out) "Clock outputs", 14 Q13 (out) "Clock outputs", 15 Q12 (out) "Clock outputs", 16 VDDC (power) "3.3 V or 2.5 V power supply for output clock buffers", 17 VSS (power) "Common ground", 18 Q11 (out) "Clock outputs", 19 Q10 (out) "Clock outputs", 20 Q9 (out) "Clock outputs", 21 VDD (power) "3.3 V or 2.5 V power supply", 22 Q8 (out) "Clock outputs", 23 Q7 (out) "Clock outputs", 24 Q6 (out) "Clock outputs", 25 VSS (power) "Common ground", 26 Q5 (out) "Clock outputs", 27 Q4 (out) "Clock outputs", 28 Q3 (out) "Clock outputs", 29 VDDC (power) "3.3 V or 2.5 V power supply for output clock buffers", 30 Q2 (out) "Clock outputs", 31 Q1 (out) "Clock outputs", 32 Q0 (out) "Clock outputs"

## CY29947ACT
designator U?
1:9 Clock Distribution Buffer, 2.5 / 3.3 V, 9 Outputs, 200 MHz Maximum, 0 to 70 degC, 32-Pin TQFP (AX32), Tape and Reel; Manufacturer: Cypress; PartNumber: CY29947ACT; Input Frequency Max. (MHz): 200; Max. Operating Voltage (V): 3.465; Min. Operating Voltage (V): 2.375; No. of Outputs: 9; DatasheetVersion: Rev. *C; PackageVersion: Rev. *D, 07/2011; PackageReference: AX32; PackageDescription: 32-Pin Thin Plastic Quad Flatpack, Body 7 x 7 mm, Pitch 0.8 mm; Supplier 1: Mouser; Supplier Part Number 1: N/A; Max. Operating Temp. (degreesC): 70; Min. Operating Temp. (degreesC): 0; Output Frequency Max. (MHz): 200; Packing: Tape and Reel; Mounting Technology: Surface Mount; ComponentLink1Description: Manufacturer URL; ComponentLink1URL: http://www.cypress.com/; ComponentLink2Description: Datasheet; ComponentLink2URL: http://www.cypress.com/?docID=48499; ComponentLink3Description: Package Specification; ComponentLink3URL: http://www.cypress.com/?docID=39155
footprint CYP-AX32-51-85063_N (QFP, 32-Leads, Body 7x7mm, Pitch 0.8mm, IPC Medium Density)
footprint CYP-AX32-51-85063_L (QFP, 32-Leads, Body 7x7mm, Pitch 0.8mm, IPC High Density)
footprint CYP-AX32-51-85063_M (QFP, 32-Leads, Body 7x7mm, Pitch 0.8mm, IPC Low Density)
pins: 1 VSS (power) "Common ground", 2 VSS (power) "Common ground", 3 TCLK (in) "External reference/test clock input", 4 TCLK_SEL (in) "Clock Select Input. When LOW, PECL clock is selected and when HIGH TCLK is selected.", 5 PECL_CLK (in) "PECL input clock", 6 PECL_CLK# (in) "PECL input clock", 7 VDD (power) "3.3 V or 2.5 V power supply", 8 VDDC (power) "3.3 V or 2.5 V power supply for output clock buffers", 9 Q17 (out) "Clock outputs", 10 Q16 (out) "Clock outputs", 11 Q15 (out) "Clock outputs", 12 VSS (power) "Common ground", 13 Q14 (out) "Clock outputs", 14 Q13 (out) "Clock outputs", 15 Q12 (out) "Clock outputs", 16 VDDC (power) "3.3 V or 2.5 V power supply for output clock buffers", 17 VSS (power) "Common ground", 18 Q11 (out) "Clock outputs", 19 Q10 (out) "Clock outputs", 20 Q9 (out) "Clock outputs", 21 VDD (power) "3.3 V or 2.5 V power supply", 22 Q8 (out) "Clock outputs", 23 Q7 (out) "Clock outputs", 24 Q6 (out) "Clock outputs", 25 VSS (power) "Common ground", 26 Q5 (out) "Clock outputs", 27 Q4 (out) "Clock outputs", 28 Q3 (out) "Clock outputs", 29 VDDC (power) "3.3 V or 2.5 V power supply for output clock buffers", 30 Q2 (out) "Clock outputs", 31 Q1 (out) "Clock outputs", 32 Q0 (out) "Clock outputs"

## CY29947AI
designator U?
1:9 Clock Distribution Buffer, 2.5 / 3.3 V, 9 Outputs, 200 MHz Maximum, -40 to 85 degC, 32-Pin TQFP (AX32), Tape and Reel; Manufacturer: Cypress; PartNumber: CY29947AI; Input Frequency Max. (MHz): 200; Max. Operating Voltage (V): 3.465; Min. Operating Voltage (V): 2.375; No. of Outputs: 9; DatasheetVersion: Rev. *C; PackageVersion: Rev. *D, 07/2011; PackageReference: AX32; PackageDescription: 32-Pin Thin Plastic Quad Flatpack, Body 7 x 7 mm, Pitch 0.8 mm; Supplier 1: Mouser; Supplier Part Number 1: N/A; Max. Operating Temp. (degreesC): 85; Min. Operating Temp. (degreesC): -40; Output Frequency Max. (MHz): 200; Mounting Technology: Surface Mount; ComponentLink1Description: Manufacturer URL; ComponentLink1URL: http://www.cypress.com/; ComponentLink2Description: Datasheet; ComponentLink2URL: http://www.cypress.com/?docID=48499; ComponentLink3Description: Package Specification; ComponentLink3URL: http://www.cypress.com/?docID=39155
footprint CYP-AX32-51-85063_N (QFP, 32-Leads, Body 7x7mm, Pitch 0.8mm, IPC Medium Density)
footprint CYP-AX32-51-85063_L (QFP, 32-Leads, Body 7x7mm, Pitch 0.8mm, IPC High Density)
footprint CYP-AX32-51-85063_M (QFP, 32-Leads, Body 7x7mm, Pitch 0.8mm, IPC Low Density)
pins: 1 VSS (power) "Common ground", 2 VSS (power) "Common ground", 3 TCLK (in) "External reference/test clock input", 4 TCLK_SEL (in) "Clock Select Input. When LOW, PECL clock is selected and when HIGH TCLK is selected.", 5 PECL_CLK (in) "PECL input clock", 6 PECL_CLK# (in) "PECL input clock", 7 VDD (power) "3.3 V or 2.5 V power supply", 8 VDDC (power) "3.3 V or 2.5 V power supply for output clock buffers", 9 Q17 (out) "Clock outputs", 10 Q16 (out) "Clock outputs", 11 Q15 (out) "Clock outputs", 12 VSS (power) "Common ground", 13 Q14 (out) "Clock outputs", 14 Q13 (out) "Clock outputs", 15 Q12 (out) "Clock outputs", 16 VDDC (power) "3.3 V or 2.5 V power supply for output clock buffers", 17 VSS (power) "Common ground", 18 Q11 (out) "Clock outputs", 19 Q10 (out) "Clock outputs", 20 Q9 (out) "Clock outputs", 21 VDD (power) "3.3 V or 2.5 V power supply", 22 Q8 (out) "Clock outputs", 23 Q7 (out) "Clock outputs", 24 Q6 (out) "Clock outputs", 25 VSS (power) "Common ground", 26 Q5 (out) "Clock outputs", 27 Q4 (out) "Clock outputs", 28 Q3 (out) "Clock outputs", 29 VDDC (power) "3.3 V or 2.5 V power supply for output clock buffers", 30 Q2 (out) "Clock outputs", 31 Q1 (out) "Clock outputs", 32 Q0 (out) "Clock outputs"

## CY29947AIT
designator U?
1:9 Clock Distribution Buffer, 2.5 / 3.3 V, 9 Outputs, 200 MHz Maximum, -40 to 85 degC, 32-Pin TQFP (AX32), Tape and Reel; Manufacturer: Cypress; PartNumber: CY29947AIT; Input Frequency Max. (MHz): 200; Max. Operating Voltage (V): 3.465; Min. Operating Voltage (V): 2.375; No. of Outputs: 9; DatasheetVersion: Rev. *C; PackageVersion: Rev. *D, 07/2011; PackageReference: AX32; PackageDescription: 32-Pin Thin Plastic Quad Flatpack, Body 7 x 7 mm, Pitch 0.8 mm; Supplier 1: Mouser; Supplier Part Number 1: N/A; Max. Operating Temp. (degreesC): 85; Min. Operating Temp. (degreesC): -40; Output Frequency Max. (MHz): 200; Packing: Tape and Reel; Mounting Technology: Surface Mount; ComponentLink1Description: Manufacturer URL; ComponentLink1URL: http://www.cypress.com/; ComponentLink2Description: Datasheet; ComponentLink2URL: http://www.cypress.com/?docID=48499; ComponentLink3Description: Package Specification; ComponentLink3URL: http://www.cypress.com/?docID=39155
footprint CYP-AX32-51-85063_N (QFP, 32-Leads, Body 7x7mm, Pitch 0.8mm, IPC Medium Density)
footprint CYP-AX32-51-85063_L (QFP, 32-Leads, Body 7x7mm, Pitch 0.8mm, IPC High Density)
footprint CYP-AX32-51-85063_M (QFP, 32-Leads, Body 7x7mm, Pitch 0.8mm, IPC Low Density)
pins: 1 VSS (power) "Common ground", 2 VSS (power) "Common ground", 3 TCLK (in) "External reference/test clock input", 4 TCLK_SEL (in) "Clock Select Input. When LOW, PECL clock is selected and when HIGH TCLK is selected.", 5 PECL_CLK (in) "PECL input clock", 6 PECL_CLK# (in) "PECL input clock", 7 VDD (power) "3.3 V or 2.5 V power supply", 8 VDDC (power) "3.3 V or 2.5 V power supply for output clock buffers", 9 Q17 (out) "Clock outputs", 10 Q16 (out) "Clock outputs", 11 Q15 (out) "Clock outputs", 12 VSS (power) "Common ground", 13 Q14 (out) "Clock outputs", 14 Q13 (out) "Clock outputs", 15 Q12 (out) "Clock outputs", 16 VDDC (power) "3.3 V or 2.5 V power supply for output clock buffers", 17 VSS (power) "Common ground", 18 Q11 (out) "Clock outputs", 19 Q10 (out) "Clock outputs", 20 Q9 (out) "Clock outputs", 21 VDD (power) "3.3 V or 2.5 V power supply", 22 Q8 (out) "Clock outputs", 23 Q7 (out) "Clock outputs", 24 Q6 (out) "Clock outputs", 25 VSS (power) "Common ground", 26 Q5 (out) "Clock outputs", 27 Q4 (out) "Clock outputs", 28 Q3 (out) "Clock outputs", 29 VDDC (power) "3.3 V or 2.5 V power supply for output clock buffers", 30 Q2 (out) "Clock outputs", 31 Q1 (out) "Clock outputs", 32 Q0 (out) "Clock outputs"

## CY29948AXC
designator U?
1:12 Clock Distribution Buffer, 2.5 / 3.3 V, 12 Outputs, 200 MHz Maximum, 0 to 70 degC, 32-Pin TQFP (AX32), Tube; Manufacturer: Cypress; PartNumber: CY29948AXC; Input Frequency Max. (MHz): 200; Max. Operating Voltage (V): 3.465; Min. Operating Voltage (V): 2.375; No. of Outputs: 12; DatasheetVersion: Rev. *G; PackageVersion: Rev. *D, 07/2011; PackageReference: AX32; PackageDescription: 32-Pin Thin Plastic Quad Flatpack, Body 7 x 7 mm, Pitch 0.8 mm; Supplier 1: Digi-Key; Supplier Part Number 1: CY29948AXC-ND; Supplier 2: Mouser; Supplier Part Number 2: 727-CY29948AXC; Max. Operating Temp. (degreesC): 70; Min. Operating Temp. (degreesC): 0; Output Frequency Max. (MHz): 200; Packing: Tube; RoHS: Pb-Free; Mounting Technology: Surface Mount; ComponentLink1Description: Manufacturer URL; ComponentLink1URL: http://www.cypress.com/; ComponentLink2Description: Datasheet; ComponentLink2URL: http://www.cypress.com/?docID=48814; ComponentLink3Description: Package Specification; ComponentLink3URL: http://www.cypress.com/?docID=39155
footprint CYP-AX32-51-85063_N (QFP, 32-Leads, Body 7x7mm, Pitch 0.8mm, IPC Medium Density)
footprint CYP-AX32-51-85063_L (QFP, 32-Leads, Body 7x7mm, Pitch 0.8mm, IPC High Density)
footprint CYP-AX32-51-85063_M (QFP, 32-Leads, Body 7x7mm, Pitch 0.8mm, IPC Low Density)
pins: 1 VSS (power) "Common ground", 2 VSS (power) "Common ground", 3 TCLK (in) "External reference/test clock input", 4 TCLK_SEL (in) "Clock Select Input. When LOW, PECL clock is selected and when HIGH TCLK is selected.", 5 PECL_CLK (in) "PECL input clock", 6 PECL_CLK# (in) "PECL input clock", 7 VDD (power) "3.3 V or 2.5 V power supply", 8 VDDC (power) "3.3 V or 2.5 V power supply for output clock buffers", 9 Q17 (out) "Clock outputs", 10 Q16 (out) "Clock outputs", 11 Q15 (out) "Clock outputs", 12 VSS (power) "Common ground", 13 Q14 (out) "Clock outputs", 14 Q13 (out) "Clock outputs", 15 Q12 (out) "Clock outputs", 16 VDDC (power) "3.3 V or 2.5 V power supply for output clock buffers", 17 VSS (power) "Common ground", 18 Q11 (out) "Clock outputs", 19 Q10 (out) "Clock outputs", 20 Q9 (out) "Clock outputs", 21 VDD (power) "3.3 V or 2.5 V power supply", 22 Q8 (out) "Clock outputs", 23 Q7 (out) "Clock outputs", 24 Q6 (out) "Clock outputs", 25 VSS (power) "Common ground", 26 Q5 (out) "Clock outputs", 27 Q4 (out) "Clock outputs", 28 Q3 (out) "Clock outputs", 29 VDDC (power) "3.3 V or 2.5 V power supply for output clock buffers", 30 Q2 (out) "Clock outputs", 31 Q1 (out) "Clock outputs", 32 Q0 (out) "Clock outputs"

## CY29948AXCT
designator U?
1:12 Clock Distribution Buffer, 2.5 / 3.3 V, 12 Outputs, 200 MHz Maximum, 0 to 70 degC, 32-Pin TQFP (AX32), Tape and Reel; Manufacturer: Cypress; PartNumber: CY29948AXCT; Input Frequency Max. (MHz): 200; Max. Operating Voltage (V): 3.465; Min. Operating Voltage (V): 2.375; No. of Outputs: 12; DatasheetVersion: Rev. *G; PackageVersion: Rev. *D, 07/2011; PackageReference: AX32; PackageDescription: 32-Pin Thin Plastic Quad Flatpack, Body 7 x 7 mm, Pitch 0.8 mm; Supplier 1: Digi-Key; Supplier Part Number 1: CY29948AXCT-ND; Supplier 2: Mouser; Supplier Part Number 2: 727-CY29948AXCT; Max. Operating Temp. (degreesC): 70; Min. Operating Temp. (degreesC): 0; Output Frequency Max. (MHz): 200; Packing: Tape and Reel; RoHS: Pb-Free; Mounting Technology: Surface Mount; ComponentLink1Description: Manufacturer URL; ComponentLink1URL: http://www.cypress.com/; ComponentLink2Description: Datasheet; ComponentLink2URL: http://www.cypress.com/?docID=48814; ComponentLink3Description: Package Specification; ComponentLink3URL: http://www.cypress.com/?docID=39155
footprint CYP-AX32-51-85063_N (QFP, 32-Leads, Body 7x7mm, Pitch 0.8mm, IPC Medium Density)
footprint CYP-AX32-51-85063_L (QFP, 32-Leads, Body 7x7mm, Pitch 0.8mm, IPC High Density)
footprint CYP-AX32-51-85063_M (QFP, 32-Leads, Body 7x7mm, Pitch 0.8mm, IPC Low Density)
pins: 1 VSS (power) "Common ground", 2 VSS (power) "Common ground", 3 TCLK (in) "External reference/test clock input", 4 TCLK_SEL (in) "Clock Select Input. When LOW, PECL clock is selected and when HIGH TCLK is selected.", 5 PECL_CLK (in) "PECL input clock", 6 PECL_CLK# (in) "PECL input clock", 7 VDD (power) "3.3 V or 2.5 V power supply", 8 VDDC (power) "3.3 V or 2.5 V power supply for output clock buffers", 9 Q17 (out) "Clock outputs", 10 Q16 (out) "Clock outputs", 11 Q15 (out) "Clock outputs", 12 VSS (power) "Common ground", 13 Q14 (out) "Clock outputs", 14 Q13 (out) "Clock outputs", 15 Q12 (out) "Clock outputs", 16 VDDC (power) "3.3 V or 2.5 V power supply for output clock buffers", 17 VSS (power) "Common ground", 18 Q11 (out) "Clock outputs", 19 Q10 (out) "Clock outputs", 20 Q9 (out) "Clock outputs", 21 VDD (power) "3.3 V or 2.5 V power supply", 22 Q8 (out) "Clock outputs", 23 Q7 (out) "Clock outputs", 24 Q6 (out) "Clock outputs", 25 VSS (power) "Common ground", 26 Q5 (out) "Clock outputs", 27 Q4 (out) "Clock outputs", 28 Q3 (out) "Clock outputs", 29 VDDC (power) "3.3 V or 2.5 V power supply for output clock buffers", 30 Q2 (out) "Clock outputs", 31 Q1 (out) "Clock outputs", 32 Q0 (out) "Clock outputs"

## CY29948AXI
designator U?
1:12 Clock Distribution Buffer, 2.5 / 3.3 V, 12 Outputs, 200 MHz Maximum, -40 to 85 degC, 32-Pin TQFP (AX32), Tube; Manufacturer: Cypress; PartNumber: CY29948AXI; Input Frequency Max. (MHz): 200; Max. Operating Voltage (V): 3.465; Min. Operating Voltage (V): 2.375; No. of Outputs: 12; DatasheetVersion: Rev. *G; PackageVersion: Rev. *D, 07/2011; PackageReference: AX32; PackageDescription: 32-Pin Thin Plastic Quad Flatpack, Body 7 x 7 mm, Pitch 0.8 mm; Supplier 1: Digi-Key; Supplier Part Number 1: CY29948AXI-ND; Supplier 2: Mouser; Supplier Part Number 2: 727-CY29948AXI; Max. Operating Temp. (degreesC): 85; Min. Operating Temp. (degreesC): -40; Output Frequency Max. (MHz): 200; Packing: Tube; RoHS: Pb-Free; Mounting Technology: Surface Mount; ComponentLink1Description: Manufacturer URL; ComponentLink1URL: http://www.cypress.com/; ComponentLink2Description: Datasheet; ComponentLink2URL: http://www.cypress.com/?docID=48814; ComponentLink3Description: Package Specification; ComponentLink3URL: http://www.cypress.com/?docID=39155
footprint CYP-AX32-51-85063_N (QFP, 32-Leads, Body 7x7mm, Pitch 0.8mm, IPC Medium Density)
footprint CYP-AX32-51-85063_L (QFP, 32-Leads, Body 7x7mm, Pitch 0.8mm, IPC High Density)
footprint CYP-AX32-51-85063_M (QFP, 32-Leads, Body 7x7mm, Pitch 0.8mm, IPC Low Density)
pins: 1 VSS (power) "Common ground", 2 VSS (power) "Common ground", 3 TCLK (in) "External reference/test clock input", 4 TCLK_SEL (in) "Clock Select Input. When LOW, PECL clock is selected and when HIGH TCLK is selected.", 5 PECL_CLK (in) "PECL input clock", 6 PECL_CLK# (in) "PECL input clock", 7 VDD (power) "3.3 V or 2.5 V power supply", 8 VDDC (power) "3.3 V or 2.5 V power supply for output clock buffers", 9 Q17 (out) "Clock outputs", 10 Q16 (out) "Clock outputs", 11 Q15 (out) "Clock outputs", 12 VSS (power) "Common ground", 13 Q14 (out) "Clock outputs", 14 Q13 (out) "Clock outputs", 15 Q12 (out) "Clock outputs", 16 VDDC (power) "3.3 V or 2.5 V power supply for output clock buffers", 17 VSS (power) "Common ground", 18 Q11 (out) "Clock outputs", 19 Q10 (out) "Clock outputs", 20 Q9 (out) "Clock outputs", 21 VDD (power) "3.3 V or 2.5 V power supply", 22 Q8 (out) "Clock outputs", 23 Q7 (out) "Clock outputs", 24 Q6 (out) "Clock outputs", 25 VSS (power) "Common ground", 26 Q5 (out) "Clock outputs", 27 Q4 (out) "Clock outputs", 28 Q3 (out) "Clock outputs", 29 VDDC (power) "3.3 V or 2.5 V power supply for output clock buffers", 30 Q2 (out) "Clock outputs", 31 Q1 (out) "Clock outputs", 32 Q0 (out) "Clock outputs"

## CY29948AXIT
designator U?
1:12 Clock Distribution Buffer, 2.5 / 3.3 V, 12 Outputs, 200 MHz Maximum, -40 to 85 degC, 32-Pin TQFP (AX32), Tape and Reel; Manufacturer: Cypress; PartNumber: CY29948AXIT; Input Frequency Max. (MHz): 200; Max. Operating Voltage (V): 3.465; Min. Operating Voltage (V): 2.375; No. of Outputs: 12; DatasheetVersion: Rev. *G; PackageVersion: Rev. *D, 07/2011; PackageReference: AX32; PackageDescription: 32-Pin Thin Plastic Quad Flatpack, Body 7 x 7 mm, Pitch 0.8 mm; Supplier 1: Digi-Key; Supplier Part Number 1: CY29948AXIT-ND; Supplier 2: Mouser; Supplier Part Number 2: 727-CY29948AXIT; Max. Operating Temp. (degreesC): 85; Min. Operating Temp. (degreesC): -40; Output Frequency Max. (MHz): 200; Packing: Tape and Reel; RoHS: Pb-Free; Mounting Technology: Surface Mount; ComponentLink1Description: Manufacturer URL; ComponentLink1URL: http://www.cypress.com/; ComponentLink2Description: Datasheet; ComponentLink2URL: http://www.cypress.com/?docID=48814; ComponentLink3Description: Package Specification; ComponentLink3URL: http://www.cypress.com/?docID=39155
footprint CYP-AX32-51-85063_N (QFP, 32-Leads, Body 7x7mm, Pitch 0.8mm, IPC Medium Density)
footprint CYP-AX32-51-85063_L (QFP, 32-Leads, Body 7x7mm, Pitch 0.8mm, IPC High Density)
footprint CYP-AX32-51-85063_M (QFP, 32-Leads, Body 7x7mm, Pitch 0.8mm, IPC Low Density)
pins: 1 VSS (power) "Common ground", 2 VSS (power) "Common ground", 3 TCLK (in) "External reference/test clock input", 4 TCLK_SEL (in) "Clock Select Input. When LOW, PECL clock is selected and when HIGH TCLK is selected.", 5 PECL_CLK (in) "PECL input clock", 6 PECL_CLK# (in) "PECL input clock", 7 VDD (power) "3.3 V or 2.5 V power supply", 8 VDDC (power) "3.3 V or 2.5 V power supply for output clock buffers", 9 Q17 (out) "Clock outputs", 10 Q16 (out) "Clock outputs", 11 Q15 (out) "Clock outputs", 12 VSS (power) "Common ground", 13 Q14 (out) "Clock outputs", 14 Q13 (out) "Clock outputs", 15 Q12 (out) "Clock outputs", 16 VDDC (power) "3.3 V or 2.5 V power supply for output clock buffers", 17 VSS (power) "Common ground", 18 Q11 (out) "Clock outputs", 19 Q10 (out) "Clock outputs", 20 Q9 (out) "Clock outputs", 21 VDD (power) "3.3 V or 2.5 V power supply", 22 Q8 (out) "Clock outputs", 23 Q7 (out) "Clock outputs", 24 Q6 (out) "Clock outputs", 25 VSS (power) "Common ground", 26 Q5 (out) "Clock outputs", 27 Q4 (out) "Clock outputs", 28 Q3 (out) "Clock outputs", 29 VDDC (power) "3.3 V or 2.5 V power supply for output clock buffers", 30 Q2 (out) "Clock outputs", 31 Q1 (out) "Clock outputs", 32 Q0 (out) "Clock outputs"